# EAGLE library part 662014230822 (library Wurth_Elektronik_Electromechanic_Wire_to_Board_Connectors_rev16a)
WR-MPC3 3.00mm Male Dual Row SMT Angled Header Through Hole Retention Clip, 14 Pins=>Code : Con_WTB_MPC3_2_PCB_SMT_662014230822 <http://katalog.we-online.de/media/thumbs2/eican/thb_Con_WTB_MPC3_2_PCB_SMT_6620xx230822_pf2.jpg> Details see: http://katalog.we-online.de/en/em/662_0xx_230_822 Created 2014-06-06, Karrer Zheng 2014 (C) Würth Elektronik
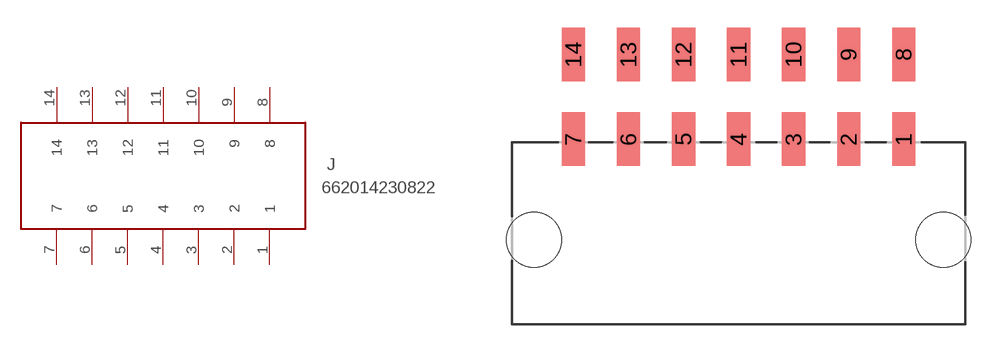
[diagram p369: symbol with the pads of 662014230822; footprint 662014230822]

Designator prefix J

## 662014230822  [662014230822]
1  1
2  2
3  3
4  4
5  5
6  6
7  7
8  8
9  9
10  10
11  11
12  12
13  13
14  14

## Footprint 662014230822 (pad centres in mm)
WR-MPC3 3.00mm Male Dual Row SMT Angled Header Through Hole Retention Clip, 14 Pins
smd 1.27 x 2.92: 1 9,5.48; 2 6,5.48; 3 3,5.48; 4 0,5.48; 5 -3,5.48; 6 -6,5.48; 7 -9,5.48; 8 9,10.1; 9 6,10.1; 10 3,10.1; 11 0,10.1; 12 -3,10.1; 13 -6,10.1; 14 -9,10.1
hole 3 at 11.16,0
hole 3 at -11.16,0